# Altium schematic symbol library SunflowerSCH.SchLib: 48 symbols (part 1 of 2)
Pins are listed as number, name and electrical type; pins without a type are passive.

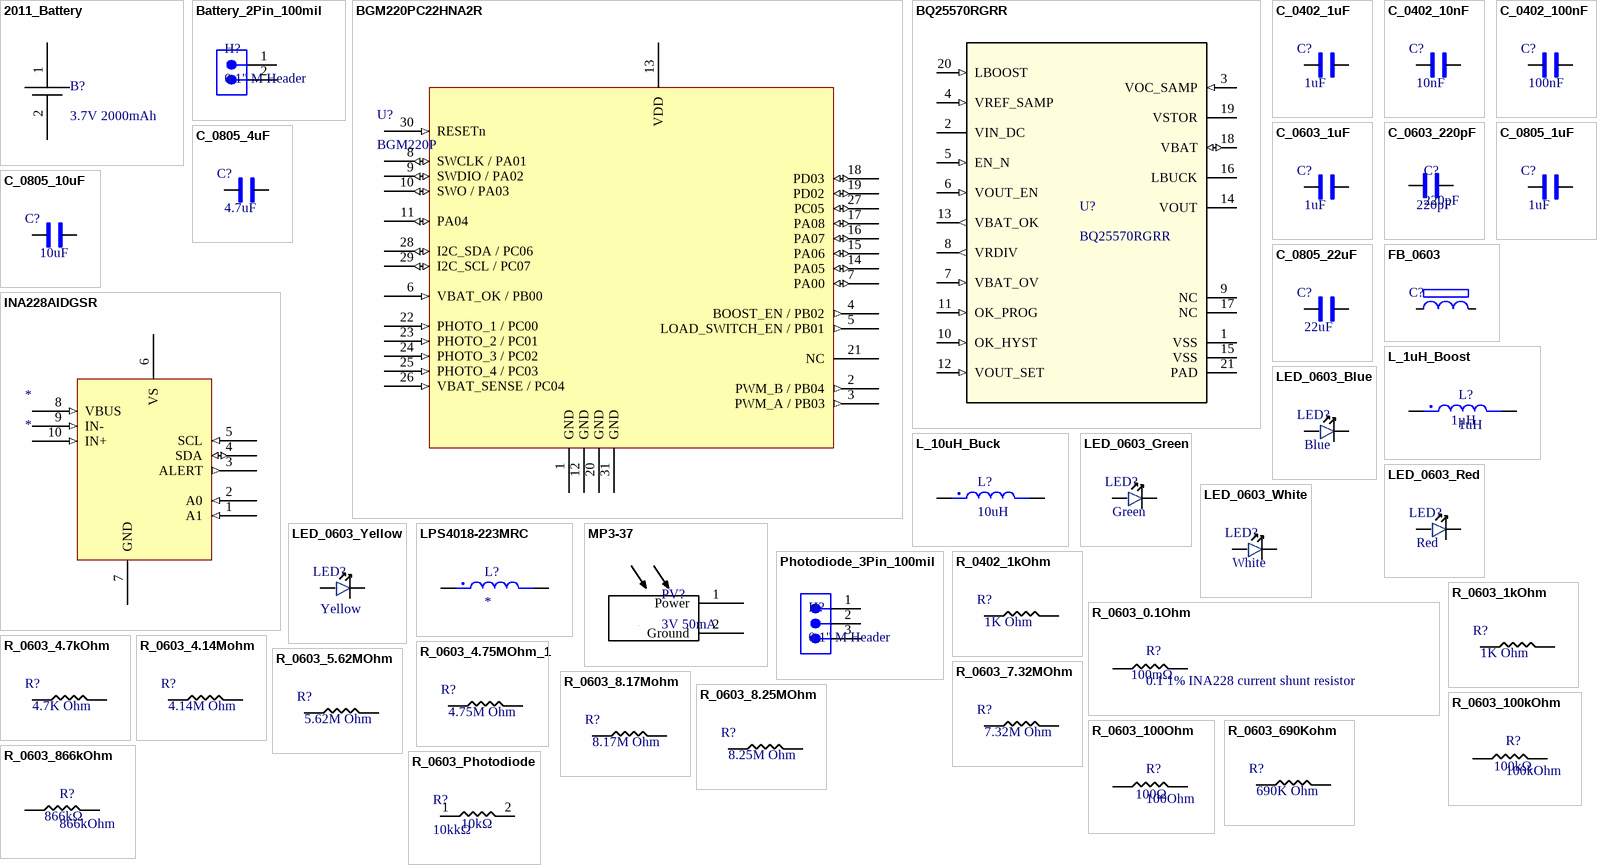
[diagram p0: symbols 2011_Battery to R_0603_Photodiode]

## 2011_Battery
designator B?, comment 3.7V 2000mAh
Lithium Ion Battery - 3.7V 2000Mah Adafruit 2011; Manufacturer: Adafruit Industries; Manufacturer Part Number: 2011; Supplier: DigiKey; Supplier Part Number: 1528-1857-ND; Category: Batteries and Accessories; Stock: 51; Pricing: 1=12.5 (USD); RoHS: Non-Compliant; Schedule B: 8507600000|8507600000|8507600000|8507600000|8507600000
footprint 2_PIN_100MIL_BATTERY
pins: 1 Power, 2 Ground

## Battery_2Pin_100mil
designator H?, comment 0.1" M Header
CONN HEADER VERT 2POS 2.54MM; Manufacturer: Sullins; Manufacturer Part Number: PRPC002SAAN-RC; Connector Type: Header, Unshrouded, Breakaway; Number of Positions: 2; Number of Positions Loaded: All; Pitch: 0.100" (2.54mm); Online Catalog: 0.100" (2.54mm) Pitch Connector Headers; Other Names: S9510E-02  S9510E-02-ND; Supplier 1: Digi-Key; Stock 1: 42739; Pricing 1: 1=0.08, 10=0.073, 25=0.054, 50=0.0464, 100=0.0449, 250=0.0387, 500=0.0372 (USD); Standard Package: 1; Category: Connectors, Interconnects; Family: Rectangular Connectors - Headers, Male Pins; Series: -; Packaging: Bulk; Contact Type: Male Pin; Number of Rows: 1; Row Spacing: -; Contact Mating Length: 0.230" (5.84mm); Mounting Type: Through Hole; Termination: Solder; Fastening Type: -; Features: -; Contact Finish: Gold; Contact Finish Thickness: Flash; Color: Black; ComponentLink1URL: https://media.digikey.com/PDF/Data%20Sheets/Sullins%20PDFs/xRxCzzzSxxN-RC_ST_11635-B.pdf?src-supplier=Digi-Key; ComponentLink1Description: https://media.digikey.com/PDF/Data%20Sheets/Sullins%20PDFs/xRxCzzzSxxN-RC_ST_11635-B.pdf?src-supplier=Digi-Key; Supplier Part Number 1: S1011EC-02-ND
footprint 2_PIN_100MIL
pins: 1, 2

## BGM220PC22HNA2R
designator U?, comment BGM220P
Wireless bluetooth PCB module, Secure Boot w/Root of Trust and Secure Loader, Built-in antenna; Manufacturer: Silicon Lab; Manufacturer Part Number: BGM220PC22HNA2R; Data Rate: 2Mbps; Max Supply Voltage: 3.8V; Min Supply Voltage: 1.8V; Nominal Supply Voltage (DC): 3V; Number of Circuits: 1; Supplier: DigiKey; Supplier Part Number: 336-BGM220PC22HNA2RCT-ND; Category: RF Receivers, Transceivers; Stock: 4488; Pricing: 1=10.46, 10=8.91, 25=8.384, 100=7.6726, 250=7.25176, 500=6.95712, 1000=5.66221 (USD); Composition: Hybrid; Height - Seated (Max): 2.4mm; Length: 15mm; Lifecycle Status: Production; Max Operating Temperature: 105°C; Min Operating Temperature: -40°C; Number of Terminals: 31; Terminal Pitch: 1.2mm; Width: 12.9mm; ComponentLink1URL: https://datasheet.octopart.com:443/BGM220PC22HNA2R-Silicon-Labs-datasheet-180780823.pdf?src-supplier=IHS; ComponentLink1Description: https://datasheet.octopart.com:443/BGM220PC22HNA2R-Silicon-Labs-datasheet-180780823.pdf?src-supplier=IHS; ComponentLink2URL: https://datasheet.octopart.com:443/BGM220PC22HNA2R-Silicon-Labs-datasheet-150822196.pdf?src-supplier=Farnell; ComponentLink2Description: https://datasheet.octopart.com:443/BGM220PC22HNA2R-Silicon-Labs-datasheet-150822196.pdf?src-supplier=Farnell; Digikey Part Number: 336-BGM220PC22HNA2RCT-ND
footprint BGM220PC22HNA2 (Silicon Labs BGM220P Bluetooth LE Module, 31-Pin, LF Crystal)
pins: 1 GND (power) "Ground", 2 PWM_B / PB04 (out) "Actuator PWM B; assigned GPIO", 3 PWM_A / PB03 (out) "Actuator PWM A; assigned GPIO", 4 BOOST_EN / PB02 (out) "MCU control output to TPS61023 EN pin; enables 5 V servo boost converter", 5 LOAD_SWITCH_EN / PB01 (out) "MCU control output to TPS22918 ON pin; enables servo 5 V load path", 6 VBAT_OK / PB00 (in) "BQ25570 VBAT_OK digital status input", 7 PA00 (io) "Spare GPIO; IADC0.VREFP alternate function", 8 SWCLK / PA01 (io) "SWD programming/debug clock; reserve for debug", 9 SWDIO / PA02 (io) "SWD programming/debug data; reserve for debug", 10 SWO / PA03 (io) "SWV/SWO debug trace; reserve for debug", 11 PA04 (io) "GPIO; TDI/TRACECLK alternate function; leave spare unless needed", 12 GND (power) "Ground", 13 VDD (power) "3.3 V MCU supply", 14 PA05 (io) "Spare GPIO", 15 PA06 (io) "Spare GPIO", 16 PA07 (io) "Spare GPIO", 17 PA08 (io) "Spare GPIO", 18 PD03 (io) "Spare GPIO", 19 PD02 (io) "Spare GPIO", 20 GND (power) "Ground", 21 NC "Do not connect", 22 PHOTO_1 / PC00 (in) "Photodiode 1 analog input; IADC-capable GPIO", 23 PHOTO_2 / PC01 (in) "Photodiode 2 analog input; IADC-capable GPIO", 24 PHOTO_3 / PC02 (in) "Photodiode 3 analog input; IADC-capable GPIO", 25 PHOTO_4 / PC03 (in) "Photodiode 4 analog input; IADC-capable GPIO", 26 VBAT_SENSE / PC04 (in) "Battery voltage-divider analog input; IADC-capable GPIO", 27 PC05 (io) "Spare GPIO; PTI_FRAME in reference design", 28 I2C_SDA / PC06 (io) "INA228 I2C0 SDA; I2C0 routable on Port C", 29 I2C_SCL / PC07 (io) "INA228 I2C0 SCL; I2C0 routable on Port C", 30 RESETn (in) "Active-low reset; internal pull-up", 31 GND (power) "Ground"

## BQ25570RGRR
designator U?
Ultra Low power Harvester power Management IC with boost charger, and Nanopower Buck Converter 20-VQFN -40 to 125; Manufacturer_Name: Texas Instruments; Alternate_PartNumber: BQ25570RGRT; TYPE: TYPE; RefDes: RefDes; Copyright: Copyright (C) 2026 Ultra Librarian. All rights reserved.; Manufacturer_Part_Number: BQ25570RGRR; Application_BuildNumber: *; PartNumber: BQ25570RGRR; PackageReference: RGR0020A; MountType: SMT; CompType: IC; RoHS: Y; Manufacturer: Texas Instruments; Digikey Part Number: 296-39934-1-ND
footprint RGR0020A
pins: 1 VSS (power), 2 VIN_DC (power), 3 VOC_SAMP (in), 4 VREF_SAMP (in), 5 EN_N (in), 6 VOUT_EN (in), 7 VBAT_OV (in), 8 VRDIV (out), 9 NC (power), 10 OK_HYST (in), 11 OK_PROG (in), 12 VOUT_SET (in), 13 VBAT_OK (out), 14 VOUT (power), 15 VSS (power), 16 LBUCK, 17 NC, 18 VBAT (io), 19 VSTOR (power), 20 LBOOST (in), 21 PAD (power)

## C_0402_1uF
designator C?, comment 1uF
MULTILAYER CERAMIC CAPACITORS MLCC - SMD/SMT 1UF 25V 0402 ROHS; MFR Part #: CL05A105KA5NQNC; Type: Basic; Datasheet: https://datasheet.lcsc.com/szlcsc/Samsung-Electro-Mechanics-CL05A105KA5NQNC_C52923.pdf; LCSC Part#: C52923; Value: 1uF
footprint 0402_Capacitor (Reference: https://www.worthingtonassembly.com/perfect-0402-footprint)
pins: 1, 2

## C_0402_10nF
designator C?, comment 10nF
10 nF low-leakage MPPT reference capacitor; MFR Part #: CL05A105KA5NQNC; Type: Basic; Datasheet: https://datasheet.lcsc.com/szlcsc/Samsung-Electro-Mechanics-CL05A105KA5NQNC_C52923.pdf; LCSC Part#: C52923; Digikey Part Number: 3372-0805W106K250CCTR-ND; Value: 10nF
footprint 0402_Capacitor (Reference: https://www.worthingtonassembly.com/perfect-0402-footprint)
pins: 1, 2

## C_0402_100nF
designator C?, comment 100nF
0402 ceramic decoupling capacitor, 0.1 µF; MFR Part #: CL05A105KA5NQNC; Type: Basic; Datasheet: https://datasheet.lcsc.com/szlcsc/Samsung-Electro-Mechanics-CL05A105KA5NQNC_C52923.pdf; LCSC Part#: C52923; Value: 100nF
footprint 0402_Capacitor (Reference: https://www.worthingtonassembly.com/perfect-0402-footprint)
pins: 1, 2

## C_0603_1uF
designator C?, comment 1uF
MULTILAYER CERAMIC CAPACITORS MLCC - SMD/SMT 1UF 25V 0603 ROHS; Type: Basic; Value: 1uF
footprint 0603_Capacitor (Reference: https://static1.squarespace.com/static/54982a02e4b02e9f5e5d9ca7/t/696fbc6031cbca68bda72a3c/1768930400402/Discrete+Component+Footprints+Rev+E.pdf)
pins: 1, 2

## C_0603_220pF
designator C?, comment 220pF
Ceramic Capacitor, Multilayer, Ceramic, 25V, 5% +Tol, 5% -Tol, C0G, 30ppm/Cel TC, 0.00022uF, Surface Mount, 0603; Manufacturer: KYOCERA AVX; Manufacturer Part Number: KGM15ACG1E221JT; Supplier: DigiKey; Supplier Part Number: 478-KGM15ACG1E221JTCT-ND; RoHS: Compliant; Category: Ceramic Capacitors; Stock: 79617; Pricing: 1=0.1, 10=0.043, 50=0.029, 100=0.0248, 500=0.01772 (USD); Case/Package: 0603; China RoHS: Compliant; Dielectric Material: Ceramic; Height: 900µm; Length: 1.6mm; Lifecycle Status: Production; Max Operating Temperature: 125°C; Min Operating Temperature: -55°C; Mounting Technology: Surface Mount; Number of Terminals: 2; REACH SVHC: Unaffected; Tolerance: 5%; Voltage Rating (DC): 25V; Width: 810µm; ComponentLink1URL: https://datasheet.octopart.com:443/KGM15ACG1E221JT-KYOCERA-AVX-datasheet-182064292.pdf?src-supplier=IHS; ComponentLink1Description: https://datasheet.octopart.com:443/KGM15ACG1E221JT-KYOCERA-AVX-datasheet-182064292.pdf?src-supplier=IHS; ComponentLink2URL: https://datasheet.octopart.com:443/KGM15ACG1E221JT-KYOCERA-AVX-datasheet-178027269.pdf?src-supplier=TME; ComponentLink2Description: https://datasheet.octopart.com:443/KGM15ACG1E221JT-KYOCERA-AVX-datasheet-178027269.pdf?src-supplier=TME; ComponentLink3URL: http://sigma.octopart.com:80/conflict_mineral_statement/AVX-company-34.pdf?src-supplier=Compliance+Statements; ComponentLink3Description: http://sigma.octopart.com:80/conflict_mineral_statement/AVX-company-34.pdf?src-supplier=Compliance+Statements; ComponentLink4URL: http://sigma.octopart.com:80/reach_statement/AVX-company-19.pdf?src-supplier=Compliance+Statements; ComponentLink4Description: http://sigma.octopart.com:80/reach_statement/AVX-company-19.pdf?src-supplier=Compliance+Statements; Digikey Part Number: 478-KGM15ACG1E221JTCT-ND; Value: 220pF
footprint 0603_Capacitor (Reference: https://static1.squarespace.com/static/54982a02e4b02e9f5e5d9ca7/t/696fbc6031cbca68bda72a3c/1768930400402/Discrete+Component+Footprints+Rev+E.pdf)
pins: 1, 2

## C_0805_1uF
designator C?, comment 1uF
MULTILAYER CERAMIC CAPACITORS MLCC - SMD/SMT 1UF 25V 0805 ROHS; Type: Basic; Value: 1uF
footprint 0805_Capacitor (Reference: https://static1.squarespace.com/static/54982a02e4b02e9f5e5d9ca7/t/696fbc6031cbca68bda72a3c/1768930400402/Discrete+Component+Footprints+Rev+E.pdf)
pins: 1, 2

## C_0805_4uF
designator C?, comment 4.7uF
4.7 µF ceramic input capacitor; Type: Basic; Value: 4.7uF
footprint 0805_Capacitor (Reference: https://static1.squarespace.com/static/54982a02e4b02e9f5e5d9ca7/t/696fbc6031cbca68bda72a3c/1768930400402/Discrete+Component+Footprints+Rev+E.pdf)
pins: 1, 2

## C_0805_10uF
designator C?, comment 10uF
10 µF ceramic input capacitor; Type: Basic; Value: 10uF
footprint 0805_Capacitor (Reference: https://static1.squarespace.com/static/54982a02e4b02e9f5e5d9ca7/t/696fbc6031cbca68bda72a3c/1768930400402/Discrete+Component+Footprints+Rev+E.pdf)
pins: 1, 2

## C_0805_22uF
designator C?, comment 22uF
22 µF ceramic buck converter output capacitor; Type: Basic; Digikey Part Number: 1276-7092-1-ND; Value: 22uF
footprint 0805_Capacitor (Reference: https://static1.squarespace.com/static/54982a02e4b02e9f5e5d9ca7/t/696fbc6031cbca68bda72a3c/1768930400402/Discrete+Component+Footprints+Rev+E.pdf)
pins: 1, 2

## FB_0603
designator C?, comment 1uF  (value not drawn)
Ferrite Bead BLM18AG601SN1D; Type: Basic
footprint 0603_Capacitor (Reference: https://static1.squarespace.com/static/54982a02e4b02e9f5e5d9ca7/t/696fbc6031cbca68bda72a3c/1768930400402/Discrete+Component+Footprints+Rev+E.pdf)
pins: 1, 2

## INA228AIDGSR
designator *
General Purpose Amplifiers; INA228AIDGSR; TEXAS INSTRUMENTS; 10; 3 mm; 3 mm; 5.5 V; Manufacturer Lifecycle Status: ACTIVE; Max Junction Temperature (Tj): 150°C; Max Supply Voltage: 5.5V; Min Supply Voltage: 2.7V; Nominal Supply Current: 640µA; Output Current: 10mA; Supplier: DigiKey; Supplier Part Number: 296-INA228AIDGSRCT-ND; Manufacturer: Texas Instruments; Manufacturer Part Number: INA228AIDGSR; RoHS: Compliant; Category: Amplifiers - Op Amps, Buffer, Instrumentation; Pricing: 1=4.68, 10=3.553, 25=3.2716, 100=2.962, 250=2.8152, 2500=2.57504 (USD); Ambient Temperature Range High: 125°C; Case/Package: VSSOP; Height: 1.07mm; Length: 3mm; Lifecycle Status: Production; Max Operating Temperature: 125°C; Min Operating Temperature: -40°C; Pins: 10; Thickness: 1.02mm; Width: 3mm; ComponentLink1URL: https://octopart.com:443/opatz8j6/c1?t=gWOkwgxvcZZpogzgh6us7kAdwgm736P1xFY3Pou09JB5_RzCMnOW7sWnpEDB21mCbkYDAazWNv1oiMQdu_BKgb0mAoCi2KJ8LJrwO8kUDNPl2mGaoJGEa9YAf4Pbr-KSqgxhCnIy_zISArDGD_T1Q98urst_F6JX8SBmlPLTyjoVv2TSVp1Ecv4ewpBfvxVF3yc7T9WDZBoozSk0L78Af-Yek5IKNrfy_02cavAlqnBLvEUxU2-VgVaeMXjbhI7HU8JRnQaYPvG55B_N8mTMS3kxpQBUHjgv94j1-0f2cBWRUMr8so2wFAhVu9Ngp6_cGnZOKtIiyKtZ52uDm-zvwCKVU_j8DjJLeHwf8O2enWHS6v6PGUF1rZbvt87R01fqxQ6sVgo&src-supplier=Texas+Instruments; ComponentLink1Description: https://octopart.com:443/opatz8j6/c1?t=gWOkwgxvcZZpogzgh6us7kAdwgm736P1xFY3Pou09JB5_RzCMnOW7sWnpEDB21mCbkYDAazWNv1oiMQdu_BKgb0mAoCi2KJ8LJrwO8kUDNPl2mGaoJGEa9YAf4Pbr-KSqgxhCnIy_zISArDGD_T1Q98urst_F6JX8SBmlPLTyjoVv2TSVp1Ecv4ewpBfvxVF3yc7T9WDZBoozSk0L78Af-Yek5IKNrfy_02cavAlqnBLvEUxU2-VgVaeMXjbhI7HU8JRnQaYPvG55B_N8mTMS3kxpQBUHjgv94j1-0f2cBWRUMr8so2wFAhVu9Ngp6_cGnZOKtIiyKtZ52uDm-zvwCKVU_j8DjJLeHwf8O2enWHS6v6PGUF1rZbvt87R01fqxQ6sVgo&src-supplier=Texas+Instruments; ComponentLink2URL: https://datasheet.octopart.com:443/INA228AIDGSR-Texas-Instruments-datasheet-169774754.pdf?src-supplier=Upverter; ComponentLink2Description: https://datasheet.octopart.com:443/INA228AIDGSR-Texas-Instruments-datasheet-169774754.pdf?src-supplier=Upverter; ComponentLink3URL: https://datasheet.octopart.com:443/INA228AIDGSR-Texas-Instruments-datasheet-179556568.pdf?src-supplier=EBEE; ComponentLink3Description: https://datasheet.octopart.com:443/INA228AIDGSR-Texas-Instruments-datasheet-179556568.pdf?src-supplier=EBEE; ComponentLink4URL: https://datasheet.octopart.com:443/INA228AIDGSR-Texas-Instruments-datasheet-165811300.pdf?src-supplier=SHENGYU+ELECTRONICS; ComponentLink4Description: https://datasheet.octopart.com:443/INA228AIDGSR-Texas-Instruments-datasheet-165811300.pdf?src-supplier=SHENGYU+ELECTRONICS; ComponentLink5URL: http://sigma.octopart.com:80/reach_statement/Texas-Instruments-company-64.pdf?src-supplier=Compliance+Statements; ComponentLink5Description: http://sigma.octopart.com:80/reach_statement/Texas-Instruments-company-64.pdf?src-supplier=Compliance+Statements; ComponentLink6URL: http://sigma.octopart.com:80/conflict_mineral_statement/Texas-Instruments-company-63.pdf?src-supplier=Compliance+Statements; ComponentLink6Description: http://sigma.octopart.com:80/conflict_mineral_statement/Texas-Instruments-company-63.pdf?src-supplier=Compliance+Statements; Digikey Part Number: 296-INA228AIDGSRCT-ND
footprint DGS0010A (VSSOP, 10-Leads, Body 3.00x3.00mm, Pitch 0.50mm, IPC Medium)
pins: 1 A1 (in) "I2C address pin. Connect to GND, SCL, SDA, or VS.", 2 A0 (in) "I2C address pin. Connect to GND, SCL, SDA, or VS.", 3 ALERT (out) "Open-drain alert output, default state is active low.", 4 SDA (io) "Open-drain bidirectional I2C data.", 5 SCL (in) "I2C clock input.", 6 VS (power) "Power supply, 2.7 V to 5.5 V.", 7 GND (power) "Ground.", 8 VBUS (in) "Bus voltage input.", 9 IN- (in) "Negative input to the device. For high-side applications, connect to load side of sense resistor. For low-side applications, connect to ground side of sense resistor.", 10 IN+ (in) "Positive input to the device. For high-side applications, connect to power supply side of sense resistor. For low-side applications, connect to load side of sense resistor."

## L_1uH_Boost
designator L?, comment 1uH  value 1µH
Inductor Power Shielded Wirewound 1uH 20% 100KHz Metal 10.25A 0.0135Ohm DCR T/R Automotive AEC-Q200; Manufacturer: Wurth Elektronik; Manufacturer Part Number: 74438357010; Manufacturer Lifecycle Status: ACTIVE; Current Rating: 7.4A; DC Resistance (DCR): 11.6mΩ; Saturation Current: 6.2A; Self Resonant Frequency: 59MHz; ESR: 13.5mΩ; YEOL: 1 = Estimated lifetime > 10 years; Supplier: DigiKey; Supplier Part Number: 732-11197-6-ND; RoHS: Compliant; Category: Fixed Inductors; Stock: 2457; Pricing: 1=1.69, 10=1.607, 50=1.548, 100=1.407 (USD); Ambient Temperature Range High: 85°C; Ambient Temperature Range Low: -40°C; Height: 3.1mm; Inductance Tolerance: 20%; Length: 4mm; Lifecycle Status: Production; Max Operating Temperature: 125°C; Min Operating Temperature: -40°C; Pins: 2; RMS Current (Irms): 7.4A; Test Frequency: 100kHz; Tolerance: 20%; Width: 4mm; ComponentLink1URL: https://datasheet.octopart.com:443/74438357010-Wurth-Elektronik-datasheet-168490242.pdf?src-supplier=Wurth+Elektronik; ComponentLink1Description: https://datasheet.octopart.com:443/74438357010-Wurth-Elektronik-datasheet-168490242.pdf?src-supplier=Wurth+Elektronik; ComponentLink2URL: https://datasheet.octopart.com:443/74438357010-W%C3%BCrth-Elektronik-datasheet-154577405.pdf?src-supplier=Upverter; ComponentLink2Description: https://datasheet.octopart.com:443/74438357010-W%C3%BCrth-Elektronik-datasheet-154577405.pdf?src-supplier=Upverter; ComponentLink3URL: https://datasheet.octopart.com:443/74438357010-Wurth-Elektronik-datasheet-181967671.pdf?src-supplier=Newark; ComponentLink3Description: https://datasheet.octopart.com:443/74438357010-Wurth-Elektronik-datasheet-181967671.pdf?src-supplier=Newark; ComponentLink4URL: https://datasheet.octopart.com:443/74438357010-W%C3%BCrth-Elektronik-datasheet-104453236.pdf?src-supplier=element14+APAC; ComponentLink4Description: https://datasheet.octopart.com:443/74438357010-W%C3%BCrth-Elektronik-datasheet-104453236.pdf?src-supplier=element14+APAC; Digikey Part Number: 732-11197-1-ND
footprint WE-MAPI_4030
pins: 1, 2

## L_10uH_Buck
designator L?, comment 10uH
10 µH buck converter inductor; MF: Coilcraft; MP: LPS4018-223MRC; SnapEDA_Link: https://www.snapeda.com/parts/LPS4018-223MRC/Coilcraft/view-part/?ref=snap; Package: None; Value: *; Check_prices: https://www.snapeda.com/parts/LPS4018-223MRC/Coilcraft/view-part/?ref=eda
footprint IND_LPS4018-223MRC
pins: 1, 2

## LED_0603_Blue
designator LED?, comment value Blue  (hidden comment: 0603Bl)
LIGHT EMITTING DIODES (LED) BLUE 465~475NM 11.5~28.5MCD@5MA TOP VIEW 0603 ROHS; MFR Part #: 19-217/BHC-ZL1M2RY/3T; Type: Basic; LCSC Part#: C72041
footprint 0603_LED
pins: 1, 2

## LED_0603_Green
designator LED?, comment value Green  (hidden comment: 0603Gr)
LIGHT EMITTING DIODES (LED) GREEN 520~535NM 112~258MCD@20MA TOP VIEW 0603 ROHS; MFR Part #: 19-217/GHC-YR1S2/3T; Type: Basic; LCSC Part#: C72043
footprint 0603_LED
pins: 1, 2

## LED_0603_Red
designator LED?, comment value Red  (hidden comment: 0603R)
LIGHT EMITTING DIODES (LED) RED 520~625NM 90~100MCD@20MA TOP VIEW 0603 ROHS; MFR Part #: KT-0603R; Type: Basic; Datasheet: https://datasheet.lcsc.com/szlcsc/Everlight-Elec-19-217-BHC-ZL1M2RY-3T_C72041.pdf; LCSC Part#: C2286
footprint 0603_LED
pins: 1, 2

## LED_0603_White
designator LED?, comment value White  (hidden comment: KT-0603R)
LIGHT EMITTING DIODES (LED) WHITE 173~207MCD@20MA TOP VIEW 0603 ROHS; Type: Basic; MFR Part #: -; LCSC Part#: C2290
footprint 0603_LED
pins: 1, 2

## LED_0603_Yellow
designator LED?, comment value Yellow  (hidden comment: 0603YLW)
LIGHT EMITTING DIODES (LED) YELLOW 585.5~591.5NM 90~180MCD@20MA TOP VIEW 0603 ROHS; MFR Part #: 19-213/Y2C-CQ2R2L/3T(CY); Type: Basic; Datasheet: https://datasheet.lcsc.com/szlcsc/Everlight-Elec-19-217-BHC-ZL1M2RY-3T_C72041.pdf; LCSC Part#: C72038
footprint 0603_LED
pins: 1, 2

## LPS4018-223MRC
designator L?
22 ÂµH Shielded Drum Core Inductor 650 mA 360mOhm Max Nonstandard; MF: Coilcraft; MP: LPS4018-223MRC; SnapEDA_Link: https://www.snapeda.com/parts/LPS4018-223MRC/Coilcraft/view-part/?ref=snap; Package: None; Value: *; Check_prices: https://www.snapeda.com/parts/LPS4018-223MRC/Coilcraft/view-part/?ref=eda
footprint IND_LPS4018-223MRC
pins: 1, 2

## MP3-37
designator PV?, comment 3V 50mA
Flexible Thin Film Solar Module 3.0V @ 50mA; Manufacturer: PowerFilm; Manufacturer Part Number: MP3-37; Supplier: DigiKey; Supplier Part Number: 1996-1024-ND; Category: Sensors; Stock: 47; Pricing: 1=8.47, 10=6.927, 50=6.0358, 100=5.6918, 300=5.18977, 500=4.97292, 1000=4.69426 (USD); Case/Package: Module; RoHS: Non-Compliant; ComponentLink1URL: https://datasheet.octopart.com:443/MP3-37-PowerFilm-datasheet-13541941.pdf?src-supplier=Jameco+(USA); ComponentLink1Description: https://datasheet.octopart.com:443/MP3-37-PowerFilm-datasheet-13541941.pdf?src-supplier=Jameco+(USA)
footprint 2_PIN_100MIL_SOLAR
pins: 1 Power, 2 Ground

## Photodiode_3Pin_100mil
designator H?, comment 0.1" M Header
CONN HEADER VERT 3POS 2.54MM; Manufacturer: Sullins; Manufacturer Part Number: PRPC003SAAN-RC; Connector Type: Header, Unshrouded, Breakaway; Number of Positions: 3; Number of Positions Loaded: All; Pitch: 0.100" (2.54mm); Online Catalog: 0.100" (2.54mm) Pitch Connector Headers; Other Names: S9510E-03  S9510E-03-ND; Supplier 1: Digi-Key; Stock 1: 19067; Pricing 1: 1=0.12, 10=0.109, 25=0.0812, 50=0.0696, 100=0.0673, 250=0.058, 500=0.0557 (USD); Standard Package: 1; Category: Connectors, Interconnects; Family: Rectangular Connectors - Headers, Male Pins; Series: -; Packaging: Bulk; Contact Type: Male Pin; Number of Rows: 1; Row Spacing: -; Contact Mating Length: 0.230" (5.84mm); Mounting Type: Through Hole; Termination: Solder; Fastening Type: -; Features: -; Contact Finish: Gold; Contact Finish Thickness: Flash; Color: Black; ComponentLink1URL: https://media.digikey.com/PDF/Data%20Sheets/Sullins%20PDFs/xRxCzzzSxxN-RC_ST_11635-B.pdf?src-supplier=Digi-Key; ComponentLink1Description: https://media.digikey.com/PDF/Data%20Sheets/Sullins%20PDFs/xRxCzzzSxxN-RC_ST_11635-B.pdf?src-supplier=Digi-Key; Supplier Part Number 1: S1011EC-03-ND
footprint 3_PIN_100mil_Photodiode
pins: 1, 2, 3

## R_0402_1kOhm
designator R?, comment value 1K Ohm  (hidden comment: 1k)
1 kOhms chip resistor SURFACE MOUNT 1KOHMS ±1% 1/16W 0402 ROHS; MFR Part #: 0402WGF1001TCE; Datasheet: https://datasheet.lcsc.com/szlcsc/Uniroyal-Elec-0402WGF1001TCE_C11702.pdf; LCSC Part#: C11702; Type: Basic
footprint 0402_Resistor (Reference: https://www.worthingtonassembly.com/perfect-0402-footprint)
pins: 1, 2

## R_0603_0.1Ohm
designator R?, comment 0.1 1% INA228 current shunt resistor  value 100mΩ
Res Thick Film 0603 0.1 Ohm 1% 0.25W ±300ppm/°C Molded SMD Punched Carrier T/R; Manufacturer: Panasonic; Manufacturer Part Number: ERJ3BSFR10V; Manufacturer Lifecycle Status: ACTIVE; Part Series: Current Sensing Resistors Thick Film Type; Max Power Dissipation: 250mW; Working Voltage: 158.1mV; Supplier: DigiKey; Supplier Part Number: P17447CT-ND; RoHS: Compliant; Category: Chip SMD Resistors; Stock: 26179; Pricing: 1=0.37, 10=0.204, 25=0.1668, 50=0.1458, 100=0.129, 250=0.11208, 500=0.1023, 1000=0.09455 (USD); Case/Package: 0603; Case Code (Imperial): 0603; Case Code (Metric): 1608; Composition: Thick Film; Contact Plating: Tin; Country of Origin: Japan; Depth: 800µm; Export Control Classification Number (ECCN) Code: EAR99; Features: Automotive AEC-Q200; Height: 450µm; Harmonized Tariff Schedule (HTS) Code: 8533.21.00.30; Introduction Date: 2006-01-31; Length: 1.6mm; Lifecycle Status: Production; Max Operating Temperature: 155°C; Military Standard: Not; Min Operating Temperature: -55°C; Mounting Technology: Surface Mount; Pins: 2; Number of Terminals: 2; Number of Terminations: 2; Packaging: Cut Tape; Power Rating: 250mW; Radiation Hardening: No; Ratings: AEC-Q200; REACH SVHC: Unaffected; Schedule B: 8533210045, 8533210045|8533210045, 8533210045|8533210045|8533210045, 8533210045|8533210045|8533210045|8533210045; Temperature Coefficient: 300ppm/°C; Termination: SMD/SMT; Tolerance: 1%; Width: 800µm; ComponentLink1URL: https://datasheet.octopart.com:443/ERJ3BSFR10V-Panasonic-datasheet-175421125.pdf?src-supplier=IHS; ComponentLink1Description: https://datasheet.octopart.com:443/ERJ3BSFR10V-Panasonic-datasheet-175421125.pdf?src-supplier=IHS; ComponentLink2URL: https://datasheet.octopart.com:443/ERJ3BSFR10V-Panasonic-datasheet-68299093.pdf?src-supplier=Future+Electronics; ComponentLink2Description: https://datasheet.octopart.com:443/ERJ3BSFR10V-Panasonic-datasheet-68299093.pdf?src-supplier=Future+Electronics; ComponentLink3URL: https://datasheet.octopart.com:443/ERJ-3BSFR10V-Panasonic-datasheet-118180696.pdf?src-supplier=Future+Electronics; ComponentLink3Description: https://datasheet.octopart.com:443/ERJ-3BSFR10V-Panasonic-datasheet-118180696.pdf?src-supplier=Future+Electronics; ComponentLink4URL: https://datasheet.octopart.com:443/ERJ-3BSFR10V-Panasonic-datasheet-154766170.pdf?src-supplier=JRH+Electronics; ComponentLink4Description: https://datasheet.octopart.com:443/ERJ-3BSFR10V-Panasonic-datasheet-154766170.pdf?src-supplier=JRH+Electronics; ComponentLink5URL: https://datasheet.octopart.com:443/ERJ3BSFR10V-Panasonic-datasheet-136473239.pdf?src-supplier=Newark; ComponentLink5Description: https://datasheet.octopart.com:443/ERJ3BSFR10V-Panasonic-datasheet-136473239.pdf?src-supplier=Newark; ComponentLink6URL: https://datasheet.octopart.com:443/ERJ3BSFR10V-Panasonic-datasheet-62346600.pdf?src-supplier=Newark; ComponentLink6Description: https://datasheet.octopart.com:443/ERJ3BSFR10V-Panasonic-datasheet-62346600.pdf?src-supplier=Newark; ComponentLink7URL: https://datasheet.octopart.com:443/ERJ3BSFR10V-Panasonic-datasheet-10033053.pdf?src-supplier=Newark; ComponentLink7Description: https://datasheet.octopart.com:443/ERJ3BSFR10V-Panasonic-datasheet-10033053.pdf?src-supplier=Newark; ComponentLink8URL: https://datasheet.octopart.com:443/ERJ3BSFR10V-Panasonic-datasheet-41172793.pdf?src-supplier=Newark; ComponentLink8Description: https://datasheet.octopart.com:443/ERJ3BSFR10V-Panasonic-datasheet-41172793.pdf?src-supplier=Newark; ComponentLink9URL: https://datasheet.octopart.com:443/ERJ3BSFR10V-Panasonic-datasheet-170667598.pdf?src-supplier=TME; ComponentLink9Description: https://datasheet.octopart.com:443/ERJ3BSFR10V-Panasonic-datasheet-170667598.pdf?src-supplier=TME; ComponentLink10URL: https://datasheet.octopart.com:443/ERJ3BSFR10V-Panasonic-datasheet-164871471.pdf?src-supplier=Burklin+Elektronik; ComponentLink10Description: https://datasheet.octopart.com:443/ERJ3BSFR10V-Panasonic-datasheet-164871471.pdf?src-supplier=Burklin+Elektronik; ComponentLink11URL: https://datasheet.octopart.com:443/ERJ-3BSFR10V-Panasonic-datasheet-15994758.pdf?src-supplier=Farnell; ComponentLink11Description: https://datasheet.octopart.com:443/ERJ-3BSFR10V-Panasonic-datasheet-15994758.pdf?src-supplier=Farnell; ComponentLink12URL: https://datasheet.octopart.com:443/ERJ-3BSFR10V-Panasonic-datasheet-13271236.pdf?src-supplier=Electro+Sonic; ComponentLink12Description: https://datasheet.octopart.com:443/ERJ-3BSFR10V-Panasonic-datasheet-13271236.pdf?src-supplier=Electro+Sonic; ComponentLink13URL: https://datasheet.octopart.com:443/ERJ-3BSFR10V-Panasonic-datasheet-22087634.pdf?src-supplier=Electro+Sonic; ComponentLink13Description: https://datasheet.octopart.com:443/ERJ-3BSFR10V-Panasonic-datasheet-22087634.pdf?src-supplier=Electro+Sonic; Digikey Part Number: P17447CT-ND
footprint 0603_Resistor (Reference: https://static1.squarespace.com/static/54982a02e4b02e9f5e5d9ca7/t/696fbc6031cbca68bda72a3c/1768930400402/Discrete+Component+Footprints+Rev+E.pdf)
pins: 1, 2

## R_0603_1kOhm
designator R?, comment value 1K Ohm  (hidden comment: 1k)
1 kOhms chip resistor SURFACE MOUNT 1KOHMS ±1% 1/16W 0603 ROHS; Type: Basic
footprint 0603_Resistor (Reference: https://static1.squarespace.com/static/54982a02e4b02e9f5e5d9ca7/t/696fbc6031cbca68bda72a3c/1768930400402/Discrete+Component+Footprints+Rev+E.pdf)
pins: 1, 2

## R_0603_4.7kOhm
designator R?, comment value 4.7K Ohm  (hidden comment: 4.7k)
0603 SMD 4.7 kΩ resistor for I²C SDA/SCL pull-up; Type: Basic
footprint 0603_Resistor (Reference: https://static1.squarespace.com/static/54982a02e4b02e9f5e5d9ca7/t/696fbc6031cbca68bda72a3c/1768930400402/Discrete+Component+Footprints+Rev+E.pdf)
pins: 1, 2

## R_0603_4.14Mohm
designator R?, comment value 4.14M Ohm  (hidden comment: 4.14M)
4.14 MΩ, 1% tolerance, 0603 SMD battery-good hysteresis-setting resistor; Type: Basic
footprint 0603_Resistor (Reference: https://static1.squarespace.com/static/54982a02e4b02e9f5e5d9ca7/t/696fbc6031cbca68bda72a3c/1768930400402/Discrete+Component+Footprints+Rev+E.pdf)
pins: 1, 2

## R_0603_4.75MOhm_1
designator R?, comment value 4.75M Ohm  (hidden comment: 4.75M)
4.75 MΩ, 1% tolerance, 0603 SMD buck converter output voltage-setting resistor; Type: Basic
footprint 0603_Resistor (Reference: https://static1.squarespace.com/static/54982a02e4b02e9f5e5d9ca7/t/696fbc6031cbca68bda72a3c/1768930400402/Discrete+Component+Footprints+Rev+E.pdf)
pins: 1, 2

## R_0603_5.62MOhm
designator R?, comment value 5.62M Ohm  (hidden comment: 5.62M)
5.62 MΩ, 1% tolerance, 0603 SMD battery overvoltage threshold-setting resistor; Type: Basic
footprint 0603_Resistor (Reference: https://static1.squarespace.com/static/54982a02e4b02e9f5e5d9ca7/t/696fbc6031cbca68bda72a3c/1768930400402/Discrete+Component+Footprints+Rev+E.pdf)
pins: 1, 2

## R_0603_7.32MOhm
designator R?, comment value 7.32M Ohm  (hidden comment: 7.32M)
7.32 MΩ, 1% tolerance, 0603 SMD battery overvoltage threshold-setting resistor; Type: Basic
footprint 0603_Resistor (Reference: https://static1.squarespace.com/static/54982a02e4b02e9f5e5d9ca7/t/696fbc6031cbca68bda72a3c/1768930400402/Discrete+Component+Footprints+Rev+E.pdf)
pins: 1, 2

## R_0603_8.17Mohm
designator R?, comment value 8.17M Ohm  (hidden comment: 8.17M)
8.17 MΩ, 1% tolerance, 0603 SMD battery-good hysteresis-setting resistor; Type: Basic
footprint 0603_Resistor (Reference: https://static1.squarespace.com/static/54982a02e4b02e9f5e5d9ca7/t/696fbc6031cbca68bda72a3c/1768930400402/Discrete+Component+Footprints+Rev+E.pdf)
pins: 1, 2

## R_0603_8.25MOhm
designator R?, comment value 8.25M Ohm  (hidden comment: 8.25M)
8.25 MΩ, 1% tolerance, 0603 SMD buck converter output voltage-setting resistor; Type: Basic
footprint 0603_Resistor (Reference: https://static1.squarespace.com/static/54982a02e4b02e9f5e5d9ca7/t/696fbc6031cbca68bda72a3c/1768930400402/Discrete+Component+Footprints+Rev+E.pdf)
pins: 1, 2

## R_0603_100kOhm
designator R?, comment 100kOhm  value 100kΩ
Res Thick Film 0603 100K Ohm 1% 0.1W(1/10W) ±100ppm/C Pad SMD Automotive T/R; Manufacturer: Stackpole Electronics; Manufacturer Part Number: RMCF0603FT100K; Max Power Dissipation: 100mW; Temperature Coefficient: 100ppm/°C; Voltage Rating: 75V; Supplier: DigiKey; Supplier Part Number: RMCF0603FT100KDKR-ND; RoHS: Compliant; Category: Chip SMD Resistors; Stock: 1796629; Pricing: 1=0.1, 10=0.021, 25=0.0152, 50=0.012, 100=0.0096, 250=0.00736, 500=0.00608, 1000=0.00509 (USD); Case/Package: 0603; Case Code (Imperial): 0603; Case Code (Metric): 1608; China RoHS: Non-Compliant; Composition: Thick Film; Contact Plating: Tin; Depth: 800µm; Features: Automotive AEC-Q200; Height: 450µm; Lead Free: Lead Free; Length: 1.55mm; Lifecycle Status: Production; Max Operating Temperature: 155°C; Military Standard: Not; Min Operating Temperature: -55°C; Mounting Technology: Surface Mount; Number of Terminals: 2; Number of Terminations: 2; Packaging: Cut Tape (CT); Power Rating: 100mW; Radiation Hardening: No; Ratings: AEC-Q200; REACH SVHC: Unaffected; Schedule B: 8533210045, 8533210045|8533210045, 8533210045|8533210045|8533210045, 8533210045|8533210045|8533210045|8533210045; Tolerance: 1%; Width: 800µm; Working Voltage: 75V; ComponentLink1URL: https://datasheet.octopart.com:443/RMCF0603FT100K-Stackpole-Electronics-datasheet-182148065.pdf?src-supplier=IHS; ComponentLink1Description: https://datasheet.octopart.com:443/RMCF0603FT100K-Stackpole-Electronics-datasheet-182148065.pdf?src-supplier=IHS; ComponentLink2URL: https://datasheet.octopart.com:443/RMCF0603FT100K-Stackpole-Electronics-datasheet-12534581.pdf?src-supplier=Upverter; ComponentLink2Description: https://datasheet.octopart.com:443/RMCF0603FT100K-Stackpole-Electronics-datasheet-12534581.pdf?src-supplier=Upverter; ComponentLink3URL: https://datasheet.octopart.com:443/RMCF0603FT100K-Stackpole-Electronics-datasheet-28504820.pdf?src-supplier=Upverter; ComponentLink3Description: https://datasheet.octopart.com:443/RMCF0603FT100K-Stackpole-Electronics-datasheet-28504820.pdf?src-supplier=Upverter; ComponentLink4URL: https://datasheet.octopart.com:443/RMCF0603FT100K-Stackpole-Electronics-datasheet-12510902.pdf?src-supplier=Upverter; ComponentLink4Description: https://datasheet.octopart.com:443/RMCF0603FT100K-Stackpole-Electronics-datasheet-12510902.pdf?src-supplier=Upverter; ComponentLink5URL: https://datasheet.octopart.com:443/RMCF0603FT100K-Stackpole-Electronics-datasheet-141193804.pdf?src-supplier=Stackpole+Electronics; ComponentLink5Description: https://datasheet.octopart.com:443/RMCF0603FT100K-Stackpole-Electronics-datasheet-141193804.pdf?src-supplier=Stackpole+Electronics; ComponentLink6URL: https://datasheet.octopart.com:443/RMCF0603FT100K-Stackpole-Electronics-datasheet-62091608.pdf?src-supplier=Stackpole+Electronics; ComponentLink6Description: https://datasheet.octopart.com:443/RMCF0603FT100K-Stackpole-Electronics-datasheet-62091608.pdf?src-supplier=Stackpole+Electronics; ComponentLink7URL: https://datasheet.octopart.com:443/RMCF0603FT100K-Stackpole-Electronics-datasheet-10788263.pdf?src-supplier=Stackpole+Electronics; ComponentLink7Description: https://datasheet.octopart.com:443/RMCF0603FT100K-Stackpole-Electronics-datasheet-10788263.pdf?src-supplier=Stackpole+Electronics; ComponentLink8URL: https://datasheet.octopart.com:443/RMCF0603FT100K-Stackpole-Electronics-datasheet-155966809.pdf?src-supplier=Electro+Sonic; ComponentLink8Description: https://datasheet.octopart.com:443/RMCF0603FT100K-Stackpole-Electronics-datasheet-155966809.pdf?src-supplier=Electro+Sonic; ComponentLink9URL: https://datasheet.octopart.com:443/RMCF0603FT100K-Stackpole-Electronics-datasheet-189104164.pdf?src-supplier=Master+Electronics; ComponentLink9Description: https://datasheet.octopart.com:443/RMCF0603FT100K-Stackpole-Electronics-datasheet-189104164.pdf?src-supplier=Master+Electronics; ComponentLink10URL: https://datasheet.octopart.com:443/RMCF0603FT100K-Stackpole-Electronics-datasheet-154799224.pdf?src-supplier=Master+Electronics; ComponentLink10Description: https://datasheet.octopart.com:443/RMCF0603FT100K-Stackpole-Electronics-datasheet-154799224.pdf?src-supplier=Master+Electronics; ComponentLink11URL: https://datasheet.octopart.com:443/RMCF0603FT100K-Stackpole-Electronics-datasheet-11546843.pdf?src-supplier=Arrow+Electronics; ComponentLink11Description: https://datasheet.octopart.com:443/RMCF0603FT100K-Stackpole-Electronics-datasheet-11546843.pdf?src-supplier=Arrow+Electronics; ComponentLink12URL: https://datasheet.octopart.com:443/RMCF0603FT100K-Stackpole-Electronics-datasheet-11547379.pdf?src-supplier=Future+Electronics; ComponentLink12Description: https://datasheet.octopart.com:443/RMCF0603FT100K-Stackpole-Electronics-datasheet-11547379.pdf?src-supplier=Future+Electronics; ComponentLink13URL: https://datasheet.octopart.com:443/RMCF0603FT100K-Stackpole-Electronics-datasheet-8359789.pdf?src-supplier=Future+Electronics; ComponentLink13Description: https://datasheet.octopart.com:443/RMCF0603FT100K-Stackpole-Electronics-datasheet-8359789.pdf?src-supplier=Future+Electronics; ComponentLink14URL: https://datasheet.octopart.com:443/RMCF0603FT100K-Stackpole-Electronics-datasheet-8324226.pdf?src-supplier=Future+Electronics; ComponentLink14Description: https://datasheet.octopart.com:443/RMCF0603FT100K-Stackpole-Electronics-datasheet-8324226.pdf?src-supplier=Future+Electronics; ComponentLink15URL: http://sigma.octopart.com:80/15940719/materials_sheet/Stackpole-Electronics-RMCF0603FT100K.pdf?src-supplier=Compliance+Statements; ComponentLink15Description: http://sigma.octopart.com:80/15940719/materials_sheet/Stackpole-Electronics-RMCF0603FT100K.pdf?src-supplier=Compliance+Statements; ComponentLink16URL: http://sigma.octopart.com:80/141158211/reach_statement/Stackpole-Electronics-RMCF0603FT100K.pdf?src-supplier=Compliance+Statements; ComponentLink16Description: http://sigma.octopart.com:80/141158211/reach_statement/Stackpole-Electronics-RMCF0603FT100K.pdf?src-supplier=Compliance+Statements; ComponentLink17URL: http://sigma.octopart.com:80/141158212/rohs_statement/Stackpole-Electronics-RMCF0603FT100K.pdf?src-supplier=Compliance+Statements; ComponentLink17Description: http://sigma.octopart.com:80/141158212/rohs_statement/Stackpole-Electronics-RMCF0603FT100K.pdf?src-supplier=Compliance+Statements; Digikey Part Number: RMCF0603FT100KCT-ND
footprint 0603_Resistor (Reference: https://static1.squarespace.com/static/54982a02e4b02e9f5e5d9ca7/t/696fbc6031cbca68bda72a3c/1768930400402/Discrete+Component+Footprints+Rev+E.pdf)
pins: 1, 2

## R_0603_100Ohm
designator R?, comment 100Ohm  value 100Ω
Res Thick Film 0603 100 Ohm 1% 0.1W(1/10W) ±100ppm/C Pad SMD Automotive T/R; Manufacturer: Panasonic; Manufacturer Part Number: ERJ3EKF1000V; Manufacturer Lifecycle Status: ACTIVE; Part Series: Precision Thick Film Chip Resistors; Max Power Dissipation: 100mW; Temperature Coefficient: 100ppm/°C; Voltage Rating: 75V; Supplier: DigiKey; Supplier Part Number: P100HDKR-ND; RoHS: Compliant; Category: Chip SMD Resistors; Stock: 2558784; Pricing: 1=0.1, 10=0.039, 25=0.0288, 50=0.0236, 100=0.0195, 250=0.01544, 500=0.01314, 1000=0.01131 (USD); Case/Package: 0603; Case Code (Imperial): 0603; China RoHS: Non-Compliant; Composition: Thick Film; Contact Plating: Tin; Country of Origin: Japan, Mainland China; Depth: 800µm; Export Control Classification Number (ECCN) Code: EAR99; Features: Automotive AEC-Q200; Height: 450µm; Harmonized Tariff Schedule (HTS) Code: 8533.21.00.30; Introduction Date: 1998-02-25; Lead Free: Lead Free; Length: 1.6mm; Lifecycle Status: Production; Max Operating Temperature: 155°C; Military Standard: Not; Min Operating Temperature: -55°C; Mounting Technology: Surface Mount; Pins: 2; Number of Terminals: 2; Number of Terminations: 2; Packaging: Cut Tape; Power Rating: 100mW; Radiation Hardening: No; Ratings: AEC-Q200; REACH SVHC: Unaffected; Schedule B: 8533210045, 8533210045|8533210045|8533210045|8533210045|8533210045|8533210045, 8533210045|8533210045|8533210045|8533210045|8533210045|8533210045|8533210045|8533210045|8533210045|8533210045|8533210045|8533210045|8533210045|8533210045|8533210045|8533210045|8533210045|8533210045|8533210045|8533210045|8533210045|8533210045|8533210045|85; Termination: SMD/SMT; Tolerance: 1%; Voltage Rating (DC): 75V; Weight: 2.012816mg; Width: 800µm; Working Voltage: 75V; ComponentLink1URL: https://datasheet.octopart.com:443/ERJ3EKF1000V-Panasonic-datasheet-82288794.pdf?src-supplier=Upverter; ComponentLink1Description: https://datasheet.octopart.com:443/ERJ3EKF1000V-Panasonic-datasheet-82288794.pdf?src-supplier=Upverter; ComponentLink2URL: https://datasheet.octopart.com:443/ERJ3EKF1000V-Panasonic-datasheet-13266541.pdf?src-supplier=RS+(Formerly+Allied+Electronics); ComponentLink2Description: https://datasheet.octopart.com:443/ERJ3EKF1000V-Panasonic-datasheet-13266541.pdf?src-supplier=RS+(Formerly+Allied+Electronics); ComponentLink3URL: https://datasheet.octopart.com:443/ERJ3EKF1000V-Panasonic-datasheet-10025800.pdf?src-supplier=Future+Electronics; ComponentLink3Description: https://datasheet.octopart.com:443/ERJ3EKF1000V-Panasonic-datasheet-10025800.pdf?src-supplier=Future+Electronics; ComponentLink4URL: https://datasheet.octopart.com:443/ERJ3EKF1000V-Panasonic-datasheet-8853621.pdf?src-supplier=Future+Electronics; ComponentLink4Description: https://datasheet.octopart.com:443/ERJ3EKF1000V-Panasonic-datasheet-8853621.pdf?src-supplier=Future+Electronics; ComponentLink5URL: https://datasheet.octopart.com:443/ERJ3EKF1000V-Panasonic-datasheet-5313456.pdf?src-supplier=element14+APAC; ComponentLink5Description: https://datasheet.octopart.com:443/ERJ3EKF1000V-Panasonic-datasheet-5313456.pdf?src-supplier=element14+APAC; ComponentLink6URL: https://datasheet.octopart.com:443/ERJ3EKF1000V-Panasonic-datasheet-48891056.pdf?src-supplier=Newark; ComponentLink6Description: https://datasheet.octopart.com:443/ERJ3EKF1000V-Panasonic-datasheet-48891056.pdf?src-supplier=Newark; ComponentLink7URL: https://datasheet.octopart.com:443/ERJ3EKF1000V-Panasonic-datasheet-168681906.pdf?src-supplier=Newark; ComponentLink7Description: https://datasheet.octopart.com:443/ERJ3EKF1000V-Panasonic-datasheet-168681906.pdf?src-supplier=Newark; ComponentLink8URL: https://datasheet.octopart.com:443/ERJ3EKF1000V-Panasonic-datasheet-136608610.pdf?src-supplier=Newark; ComponentLink8Description: https://datasheet.octopart.com:443/ERJ3EKF1000V-Panasonic-datasheet-136608610.pdf?src-supplier=Newark; ComponentLink9URL: https://datasheet.octopart.com:443/ERJ-3EKF1000V-Panasonic-datasheet-154766169.pdf?src-supplier=Master+Electronics; ComponentLink9Description: https://datasheet.octopart.com:443/ERJ-3EKF1000V-Panasonic-datasheet-154766169.pdf?src-supplier=Master+Electronics; ComponentLink10URL: https://datasheet.octopart.com:443/ERJ3EKF1000V-Panasonic-datasheet-138819429.pdf?src-supplier=Burklin+Elektronik; ComponentLink10Description: https://datasheet.octopart.com:443/ERJ3EKF1000V-Panasonic-datasheet-138819429.pdf?src-supplier=Burklin+Elektronik; ComponentLink11URL: https://datasheet.octopart.com/ERJ3EKF1000V-Panasonic-datasheet-78375410.pdf; ComponentLink11Description: https://datasheet.octopart.com/ERJ3EKF1000V-Panasonic-datasheet-78375410.pdf; ComponentLink12URL: https://datasheet.octopart.com:443/ERJ3EKF1000V-Panasonic-datasheet-7538305.pdf?src-supplier=Jameco+(USA); ComponentLink12Description: https://datasheet.octopart.com:443/ERJ3EKF1000V-Panasonic-datasheet-7538305.pdf?src-supplier=Jameco+(USA); ComponentLink13URL: https://datasheet.octopart.com:443/ERJ-3EKF1000V-Panasonic-datasheet-118621.pdf?src-supplier=DigiKey; ComponentLink13Description: https://datasheet.octopart.com:443/ERJ-3EKF1000V-Panasonic-datasheet-118621.pdf?src-supplier=DigiKey; ComponentLink14URL: https://datasheet.octopart.com:443/ERJ-3EKF1000V-Panasonic-datasheet-41391857.pdf?src-supplier=Electro+Sonic; ComponentLink14Description: https://datasheet.octopart.com:443/ERJ-3EKF1000V-Panasonic-datasheet-41391857.pdf?src-supplier=Electro+Sonic; Digikey Part Number: P100HCT-ND
footprint 0603_Resistor (Reference: https://static1.squarespace.com/static/54982a02e4b02e9f5e5d9ca7/t/696fbc6031cbca68bda72a3c/1768930400402/Discrete+Component+Footprints+Rev+E.pdf)
pins: 1, 2

## R_0603_690Kohm
designator R?, comment value 690K Ohm  (hidden comment: 690K)
690 kΩ, 1% tolerance, 0603 SMD battery-good hysteresis-setting resistor; Type: Basic
footprint 0603_Resistor (Reference: https://static1.squarespace.com/static/54982a02e4b02e9f5e5d9ca7/t/696fbc6031cbca68bda72a3c/1768930400402/Discrete+Component+Footprints+Rev+E.pdf)
pins: 1, 2

## R_0603_866kOhm
designator R?, comment 866kOhm  value 866kΩ
Res Thick Film 0603 866K Ohm 1% 0.1W(1/10W) ±100ppm/C Pad SMD Automotive T/R; Manufacturer: Panasonic; Manufacturer Part Number: ERJ-3EKF8663V; Manufacturer Lifecycle Status: ACTIVE; Part Series: Precision Thick Film Chip Resistors; Max Power Dissipation: 100mW; Temperature Coefficient: 100ppm/°C; Voltage Rating: 75V; Supplier: DigiKey; Supplier Part Number: P866KHCT-ND; RoHS: Compliant; Category: Chip SMD Resistors; Stock: 58087; Pricing: 1=0.1, 10=0.039, 25=0.0288, 50=0.0236, 100=0.0195, 250=0.01544, 500=0.01314, 1000=0.01131 (USD); Case/Package: 0603; Case Code (Imperial): 0603; China RoHS: Non-Compliant; Composition: Thick Film; Contact Plating: Tin; Country of Origin: Japan, Mainland China; Depth: 800µm; Export Control Classification Number (ECCN) Code: EAR99; Features: Automotive AEC-Q200; Height: 450µm; Harmonized Tariff Schedule (HTS) Code: 8533.21.00.30; Introduction Date: 1998-02-25; Length: 1.6mm; Lifecycle Status: Production; Max Operating Temperature: 155°C; Military Standard: Not; Min Operating Temperature: -55°C; Mounting Technology: Surface Mount; Number of Terminals: 2; Number of Terminations: 2; Packaging: Cut Tape; Power Rating: 100mW; Ratings: AEC-Q200; REACH SVHC: Unaffected; Schedule B: 8533210045, 8533210045|8533210045, 8533210045|8533210045|8533210045, 8533210045|8533210045|8533210045|8533210045; Termination: SMD/SMT; Tolerance: 1%; Weight: 2.012816mg; Width: 800µm; Working Voltage: 75V; ComponentLink1URL: https://datasheet.octopart.com:443/ERJ-3EKF8663V-Panasonic-datasheet-82288794.pdf?src-supplier=Panasonic; ComponentLink1Description: https://datasheet.octopart.com:443/ERJ-3EKF8663V-Panasonic-datasheet-82288794.pdf?src-supplier=Panasonic; ComponentLink2URL: https://datasheet.octopart.com:443/ERJ-3EKF8663V-Panasonic-datasheet-13266541.pdf?src-supplier=RS+(Formerly+Allied+Electronics); ComponentLink2Description: https://datasheet.octopart.com:443/ERJ-3EKF8663V-Panasonic-datasheet-13266541.pdf?src-supplier=RS+(Formerly+Allied+Electronics); ComponentLink3URL: https://datasheet.octopart.com:443/ERJ-3EKF8663V-Panasonic-datasheet-48891056.pdf?src-supplier=Newark; ComponentLink3Description: https://datasheet.octopart.com:443/ERJ-3EKF8663V-Panasonic-datasheet-48891056.pdf?src-supplier=Newark; ComponentLink4URL: https://datasheet.octopart.com:443/ERJ-3EKF8663V-Panasonic-datasheet-33006990.pdf?src-supplier=Newark; ComponentLink4Description: https://datasheet.octopart.com:443/ERJ-3EKF8663V-Panasonic-datasheet-33006990.pdf?src-supplier=Newark; ComponentLink5URL: https://datasheet.octopart.com:443/ERJ-3EKF8663V-Panasonic---ECG-datasheet-21211697.pdf?src-supplier=Newark; ComponentLink5Description: https://datasheet.octopart.com:443/ERJ-3EKF8663V-Panasonic---ECG-datasheet-21211697.pdf?src-supplier=Newark; ComponentLink6URL: https://datasheet.octopart.com:443/ERJ3EKF8663V-Panasonic-datasheet-168681906.pdf?src-supplier=Farnell; ComponentLink6Description: https://datasheet.octopart.com:443/ERJ3EKF8663V-Panasonic-datasheet-168681906.pdf?src-supplier=Farnell; ComponentLink7URL: https://datasheet.octopart.com:443/ERJ3EKF8663V-Panasonic-datasheet-136608610.pdf?src-supplier=Farnell; ComponentLink7Description: https://datasheet.octopart.com:443/ERJ3EKF8663V-Panasonic-datasheet-136608610.pdf?src-supplier=Farnell; ComponentLink8URL: https://datasheet.octopart.com:443/ERJ-3EKF8663V-Panasonic---ECG-datasheet-15994758.pdf?src-supplier=Farnell; ComponentLink8Description: https://datasheet.octopart.com:443/ERJ-3EKF8663V-Panasonic---ECG-datasheet-15994758.pdf?src-supplier=Farnell; ComponentLink9URL: https://datasheet.octopart.com:443/ERJ-3EKF8663V-Panasonic---ECG-datasheet-10025800.pdf?src-supplier=Farnell; ComponentLink9Description: https://datasheet.octopart.com:443/ERJ-3EKF8663V-Panasonic---ECG-datasheet-10025800.pdf?src-supplier=Farnell; ComponentLink10URL: https://datasheet.octopart.com:443/ERJ-3EKF8663V-Panasonic---ECG-datasheet-8853621.pdf?src-supplier=Farnell; ComponentLink10Description: https://datasheet.octopart.com:443/ERJ-3EKF8663V-Panasonic---ECG-datasheet-8853621.pdf?src-supplier=Farnell; ComponentLink11URL: https://datasheet.octopart.com:443/ERJ-3EKF8663V-Panasonic---ECG-datasheet-5313456.pdf?src-supplier=Farnell; ComponentLink11Description: https://datasheet.octopart.com:443/ERJ-3EKF8663V-Panasonic---ECG-datasheet-5313456.pdf?src-supplier=Farnell; ComponentLink12URL: https://datasheet.octopart.com:443/ERJ-3EKF8663V-Panasonic-datasheet-154766169.pdf?src-supplier=JRH+Electronics; ComponentLink12Description: https://datasheet.octopart.com:443/ERJ-3EKF8663V-Panasonic-datasheet-154766169.pdf?src-supplier=JRH+Electronics; ComponentLink13URL: https://datasheet.octopart.com:443/ERJ3EKF8663V-Panasonic-datasheet-138819429.pdf?src-supplier=Burklin+Elektronik; ComponentLink13Description: https://datasheet.octopart.com:443/ERJ3EKF8663V-Panasonic-datasheet-138819429.pdf?src-supplier=Burklin+Elektronik; ComponentLink14URL: https://datasheet.octopart.com/ERJ-3EKF8663V-Panasonic-datasheet-78375410.pdf; ComponentLink14Description: https://datasheet.octopart.com/ERJ-3EKF8663V-Panasonic-datasheet-78375410.pdf; ComponentLink15URL: https://datasheet.octopart.com:443/ERJ-3EKF8663V-Panasonic-datasheet-118621.pdf?src-supplier=DigiKey; ComponentLink15Description: https://datasheet.octopart.com:443/ERJ-3EKF8663V-Panasonic-datasheet-118621.pdf?src-supplier=DigiKey; ComponentLink16URL: https://datasheet.octopart.com:443/ERJ-3EKF8663V-Panasonic-datasheet-41391857.pdf?src-supplier=Electro+Sonic; ComponentLink16Description: https://datasheet.octopart.com:443/ERJ-3EKF8663V-Panasonic-datasheet-41391857.pdf?src-supplier=Electro+Sonic; Digikey Part Number: P866KHCT-ND
footprint 0603_Resistor (Reference: https://static1.squarespace.com/static/54982a02e4b02e9f5e5d9ca7/t/696fbc6031cbca68bda72a3c/1768930400402/Discrete+Component+Footprints+Rev+E.pdf)
pins: 1, 2